# EAGLE library part L3GD20 (library Micro2)
L3GD20
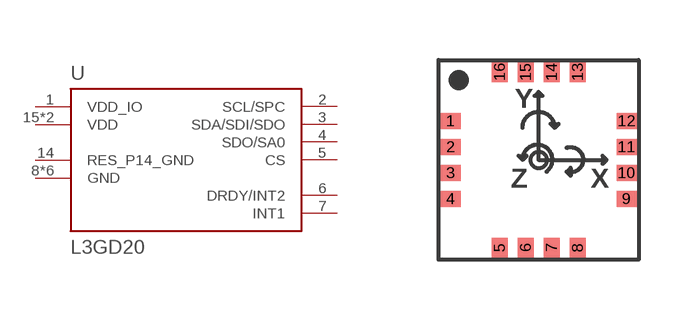
[diagram p4: symbol with the pads of L3GD20; footprint L3GD20]

Designator prefix -

## L3GD20  [L3GD20]
1  VDD_IO
2  SCL/SPC  in
3  SDA/SDI/SDO
4  SDO/SA0
5  CS  in
6  DRDY/INT2  out
7  INT1  out
8  GND
9  GND
10  GND
11  GND
12  GND
13  GND
14  RES_P14_GND
15  VDD
16  VDD

## Footprint L3GD20 (pad centres in mm)
smd 0.5 x 0.4: 1 -2.2,0.975; 2 -2.2,0.325; 3 -2.2,-0.325; 4 -2.2,-0.975; 9 2.2,-0.975; 10 2.2,-0.325; 11 2.2,0.325; 12 2.2,0.975
smd 0.4 x 0.5: 5 -0.975,-2.2; 6 -0.325,-2.2; 7 0.325,-2.2; 8 0.975,-2.2; 13 0.975,2.2; 14 0.325,2.2; 15 -0.325,2.2; 16 -0.975,2.2